# EAGLE library part DRV8302 (library mojo_test_esc)
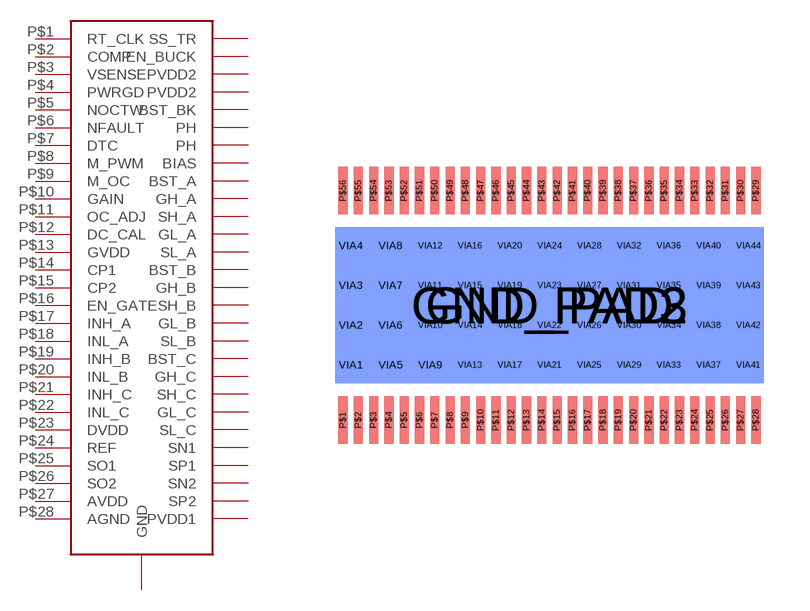
[diagram p2: symbol with the pads of DRV8302; footprint DRV8302]

Designator prefix -

## DRV8302  [DRV8302]
GND_PAD  GND  pas
GND_PAD2  GND  pas
GND_PAD3  GND  pas
P$1  RT_CLK
P$2  COMP
P$3  VSENSE
P$4  PWRGD
P$5  NOCTW
P$6  NFAULT
P$7  DTC
P$8  M_PWM
P$9  M_OC
P$10  GAIN
P$11  OC_ADJ
P$12  DC_CAL
P$13  GVDD
P$14  CP1
P$15  CP2
P$16  EN_GATE
P$17  INH_A
P$18  INL_A
P$19  INH_B
P$20  INL_B
P$21  INH_C
P$22  INL_C
P$23  DVDD  pas
P$24  REF
P$25  SO1
P$26  SO2
P$27  AVDD  pas
P$28  AGND  pas
P$29  PVDD1  pas
P$30  SP2
P$31  SN2
P$32  SP1
P$33  SN1
P$34  SL_C
P$35  GL_C
P$36  SH_C
P$37  GH_C
P$38  BST_C
P$39  SL_B
P$40  GL_B
P$41  SH_B
P$42  GH_B
P$43  BST_B
P$44  SL_A
P$45  GL_A
P$46  SH_A
P$47  GH_A
P$48  BST_A
P$49  BIAS
P$50  PH
P$51  PH
P$52  BST_BK
P$53  PVDD2
P$54  PVDD2  pas
P$55  EN_BUCK
P$56  SS_TR
VIA1  GND  pas
VIA2  GND  pas
VIA3  GND  pas
VIA4  GND  pas
VIA5  GND  pas
VIA6  GND  pas
VIA7  GND  pas
VIA8  GND  pas
VIA9  GND  pas
VIA10  GND  pas
VIA11  GND  pas
VIA12  GND  pas
VIA13  GND  pas
VIA14  GND  pas
VIA15  GND  pas
VIA16  GND  pas
VIA17  GND  pas
VIA18  GND  pas
VIA19  GND  pas
VIA20  GND  pas
VIA21  GND  pas
VIA22  GND  pas
VIA23  GND  pas
VIA24  GND  pas
VIA25  GND  pas
VIA26  GND  pas
VIA27  GND  pas
VIA28  GND  pas
VIA29  GND  pas
VIA30  GND  pas
VIA31  GND  pas
VIA32  GND  pas
VIA33  GND  pas
VIA34  GND  pas
VIA35  GND  pas
VIA36  GND  pas
VIA37  GND  pas
VIA38  GND  pas
VIA39  GND  pas
VIA40  GND  pas
VIA41  GND  pas
VIA42  GND  pas
VIA43  GND  pas
VIA44  GND  pas

## Footprint DRV8302 (pad centres in mm)
smd 6.35 x 3.61: GND_PAD 0,0
smd 14 x 5.1: GND_PAD2 0,0
smd 14 x 5.1 bottom: GND_PAD3 0,0
smd 0.3 x 1.55: P$1 -6.75,-3.75; P$2 -6.25,-3.75; P$3 -5.75,-3.75; P$4 -5.25,-3.75; P$5 -4.75,-3.75; P$6 -4.25,-3.75; P$7 -3.75,-3.75; P$8 -3.25,-3.75; P$9 -2.75,-3.75; P$10 -2.25,-3.75; P$11 -1.75,-3.75; P$12 -1.25,-3.75; P$13 -0.75,-3.75; P$14 -0.25,-3.75; P$15 0.25,-3.75; P$16 0.75,-3.75; P$17 1.25,-3.75; P$18 1.75,-3.75; P$19 2.25,-3.75; P$20 2.75,-3.75; P$21 3.25,-3.75; P$22 3.75,-3.75; P$23 4.25,-3.75; P$24 4.75,-3.75; P$25 5.25,-3.75; P$26 5.75,-3.75; P$27 6.25,-3.75; P$28 6.75,-3.75; P$29 6.75,3.75; P$30 6.25,3.75; P$31 5.75,3.75; P$32 5.25,3.75; P$33 4.75,3.75; P$34 4.25,3.75; P$35 3.75,3.75; P$36 3.25,3.75; P$37 2.75,3.75; P$38 2.25,3.75; P$39 1.75,3.75; P$40 1.25,3.75; P$41 0.75,3.75; P$42 0.25,3.75; P$43 -0.25,3.75; P$44 -0.75,3.75; P$45 -1.25,3.75; P$46 -1.75,3.75; P$47 -2.25,3.75; P$48 -2.75,3.75; P$49 -3.25,3.75; P$50 -3.75,3.75; P$51 -4.25,3.75; P$52 -4.75,3.75; P$53 -5.25,3.75; P$54 -5.75,3.75; P$55 -6.25,3.75; P$56 -6.75,3.75
drill 0.254 pad 0.381: VIA1 -6.5,-1.95; VIA2 -6.5,-0.65; VIA3 -6.5,0.65; VIA4 -6.5,1.95; VIA5 -5.2,-1.95; VIA6 -5.2,-0.65; VIA7 -5.2,0.65; VIA8 -5.2,1.95; VIA9 -3.9,-1.95; VIA10 -3.9,-0.65; VIA11 -3.9,0.65; VIA12 -3.9,1.95; VIA13 -2.6,-1.95; VIA14 -2.6,-0.65; VIA15 -2.6,0.65; VIA16 -2.6,1.95; VIA17 -1.3,-1.95; VIA18 -1.3,-0.65; VIA19 -1.3,0.65; VIA20 -1.3,1.95; VIA21 0,-1.95; VIA22 0,-0.65; VIA23 0,0.65; VIA24 0,1.95; VIA25 1.3,-1.95; VIA26 1.3,-0.65; VIA27 1.3,0.65; VIA28 1.3,1.95; VIA29 2.6,-1.95; VIA30 2.6,-0.65; VIA31 2.6,0.65; VIA32 2.6,1.95; VIA33 3.9,-1.95; VIA34 3.9,-0.65; VIA35 3.9,0.65; VIA36 3.9,1.95; VIA37 5.2,-1.95; VIA38 5.2,-0.65; VIA39 5.2,0.65; VIA40 5.2,1.95; VIA41 6.5,-1.95; VIA42 6.5,-0.65; VIA43 6.5,0.65; VIA44 6.5,1.95